# EAGLE library part CARD-SD-ADAPTER-CATALEX (library SD-Card-Module_CATALEX)
Micro SD Card Adapter Module with onboard 3.3V regulator
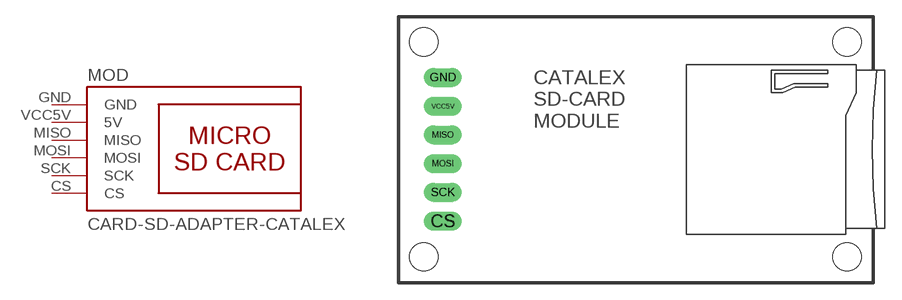
[diagram p0: symbol with the pads of CARD-SD-ADAPTER-CATALEX; footprint CARD-SD-ADAPTER-CATALEX]

Designator prefix MOD

## CARD-SD-ADAPTER-CATALEX  [CARD-SD-ADAPTER-CATALEX]
CS  CS
GND  GND  pwr
MISO  MISO
MOSI  MOSI
SCK  SCK
VCC5V  5V  pwr

## Footprint CARD-SD-ADAPTER-CATALEX (pad centres in mm)
drill 0.8 pad 1.676 long: CS -17,-6.35; GND -17,6.35; MISO -17,1.27; MOSI -17,-1.27; SCK -17,-3.81; VCC5V -17,3.81
hole 2.5 at -18.7,9.5
hole 2.5 at 18.7,9.5
hole 2.5 at 18.7,-9.5
hole 2.5 at -18.7,-9.5